# Altium footprint library 1812.PcbLib: 3 footprints
Each footprint in its own frame and in the unit in brackets; x right, y up, seen from the top. Pads: shape width x height; smd on the part's side, far side on the other; paste and mask are expansions set on the pad; w line width, h text height; cw(c..) or ccw(c..) is an arc to the next point about the centre after c.
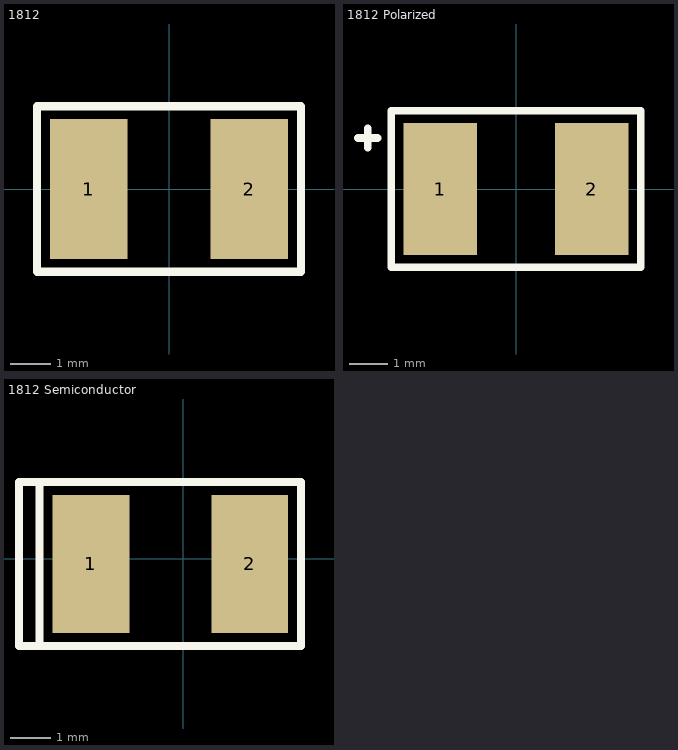
[diagram p0: the footprints below, top view; thin cyan lines are the x and y axes]

## 1812 [mil]
pads (2):
  rect 75x135 smd: 1(-77.5,0) 2(77.5,0)
Top Overlay:
  lines w7.87: -127.5,-80 -127.5,80 127.5,80 127.5,-80 -127.5,-80

## 1812 Polarized [mil]
pads (2):
  rect 75x135 smd: 1(-77.5,0) 2(77.5,0)
Top Overlay:
  lines w7.87: -161.5,52 -141.5,52 ; -151.5,42 -151.5,62 ; -127.5,-80 127.5,-80 127.5,80 -127.5,80 -127.5,-80

## 1812 Semiconductor [mil]
pads (2):
  rect 75x135 smd: 1(-90,-5) 2(65,-5)
Top Overlay:
  lines w7.87: -140,-85 -140,75 ; -160,-85 -160,75 115,75 115,-85 -160,-85